# Altium schematic symbol library mini_lathe_motor_monitor.SCHLIB: 14 symbols
Pins are listed as number, name and electrical type; pins without a type are passive.

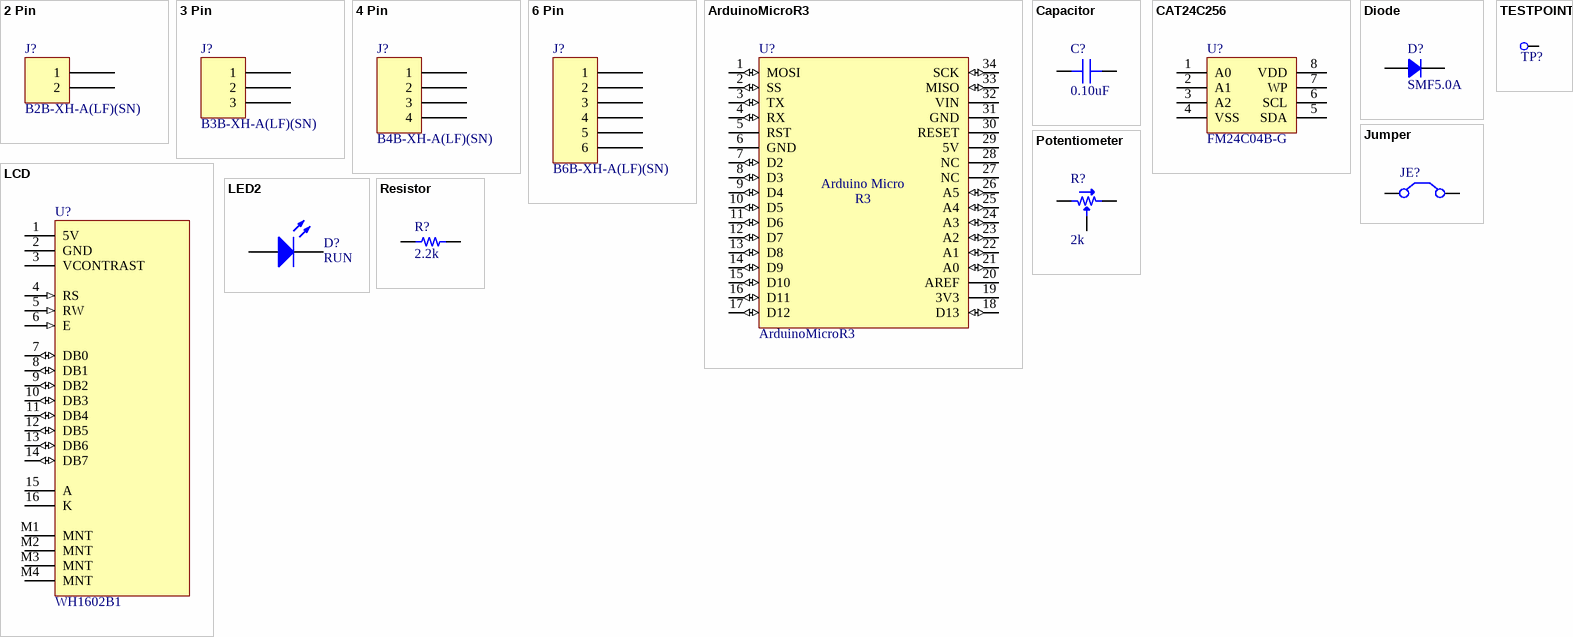
[diagram p0: symbols 2 Pin to TESTPOINT]

## 2 Pin
designator J?, comment B2B-XH-A(LF)(SN)
CONN HEADER XH TOP 2POS 2.5MM; Manufacturer: JST Sales America Inc.; Pitch: 0.098" (2.50mm); Number Of Positions: 2; PartId: 16449; Part Number: B2B-XH-A(LF)(SN); Supplier 1: Digi-Key; Supplier Part Number 1: 455-2247-ND; ComponentLink1Description: Datasheet; ComponentLink1URL: http://www.jst-mfg.com/product/pdf/eng/eXH.pdf; ComponentLink2Description: Digi-Key Listing; ComponentLink2URL: http://www.digikey.com/product-detail/en/jst-sales-america-inc/B2B-XH-A(LF)(SN)/455-2247-ND/1651045; Price: 0.1500; Type: Header, Shrouded; Contact Finish: Tin; Fastening Type: Detent Lock; Number Of Rows: 1; Colour: Natural; Series: XH
footprint JST XH B2B-XH-A
pins: 1, 2

## 3 Pin
designator J?, comment B3B-XH-A(LF)(SN)
CONN HEADER XH TOP 3POS 2.5MM; Manufacturer: JST Sales America Inc.; Pitch: 0.098" (2.50mm); Number Of Positions: 3; PartId: 16450; Part Number: B3B-XH-A(LF)(SN); Supplier 1: Digi-Key; Supplier Part Number 1: 455-2248-ND; ComponentLink1Description: Datasheet; ComponentLink1URL: http://www.jst-mfg.com/product/pdf/eng/eXH.pdf; ComponentLink2Description: Digi-Key Listing; ComponentLink2URL: http://www.digikey.com/product-detail/en/jst-sales-america-inc/B3B-XH-A(LF)(SN)/455-2248-ND/1651046; Price: 0.1900; Type: Header, Shrouded; Contact Finish: Tin; Fastening Type: Detent Lock; Number Of Rows: 1; Colour: Natural; Series: XH
footprint JST XH B3B-XH-A
pins: 1, 2, 3

## 4 Pin
designator J?, comment B4B-XH-A(LF)(SN)
CONN HEADER XH TOP 4POS 2.5MM; Manufacturer: JST Sales America Inc.; Pitch: 0.098" (2.50mm); Number Of Positions: 4; PartId: 16451; Part Number: B4B-XH-A(LF)(SN); Supplier 1: Digi-Key; Supplier Part Number 1: 455-2249-ND; ComponentLink1Description: Datasheet; ComponentLink1URL: http://www.jst-mfg.com/product/pdf/eng/eXH.pdf; ComponentLink2Description: Digi-Key Listing; ComponentLink2URL: http://www.digikey.com/product-detail/en/jst-sales-america-inc/B4B-XH-A(LF)(SN)/455-2249-ND/1651047; Price: 0.2100; Type: Header, Shrouded; Contact Finish: Tin; Fastening Type: Detent Lock; Number Of Rows: 1; Colour: Natural; Series: XH
footprint JST XH B4B-XH-A
pins: 1, 2, 3, 4

## 6 Pin
designator J?, comment B6B-XH-A(LF)(SN)
CONN HEADER XH TOP 6POS 2.5MM; Manufacturer: JST Sales America Inc.; Pitch: 0.098" (2.50mm); Number Of Positions: 6; PartId: 16453; Part Number: B6B-XH-A(LF)(SN); Supplier 1: Digi-Key; Supplier Part Number 1: 455-2271-ND; ComponentLink1Description: Datasheet; ComponentLink1URL: http://www.jst-mfg.com/product/pdf/eng/eXH.pdf; ComponentLink2Description: Digi-Key Listing; ComponentLink2URL: http://www.digikey.com/product-detail/en/jst-sales-america-inc/B6B-XH-A(LF)(SN)/455-2271-ND/1000381; Price: 0.2700; Type: Header, Shrouded; Contact Finish: Tin; Fastening Type: Detent Lock; Number Of Rows: 1; Colour: Natural; Series: XH
footprint JST XH B6B-XH-A
pins: 1, 2, 3, 4, 5, 6

## ArduinoMicroR3
designator U?
Arduino Micro R3; Manufacturer: Arduino; PartNumber: Micro R3
footprint ARDUINO_MICRO_R3 (Arduino Micro R3)
pins: 1 MOSI (io), 2 SS (io), 3 TX (io), 4 RX (io), 5 RST, 6 GND (power), 7 D2 (io), 8 D3 (io), 9 D4 (io), 10 D5 (io), 11 D6 (io), 12 D7 (io), 13 D8 (io), 14 D9 (io), 15 D10 (io), 16 D11 (io), 17 D12 (io), 18 D13 (io), 19 3V3 (power), 20 AREF, 21 A0 (io), 22 A1 (io), 23 A2 (io), 24 A3 (io), 25 A4 (io), 26 A5 (io), 27 NC, 28 NC, 29 5V (power), 30 RESET (power), 31 GND (power), 32 VIN (power), 33 MISO (io), 34 SCK (io)
text: Arduino Micro; R3

## Capacitor
designator C?, comment 0.10uF
CAP CER 0.1UF 16V X7R 0603; Part Number: GRM188R71C104KA01D; Manufacturer: Murata Electronics North America; TemperatureRange: -55C ~ 125C; Tolerance: 10%; Value: 0.10uF; PartId: 12948; Supplier 1: Digi-Key; Supplier Part Number 1: 490-1532-2-ND; ComponentLink1Description: Datasheet; ComponentLink1URL: http://www.murata.com/~/media/webrenewal/support/library/catalog/products/capacitor/mlcc/c02e.pdf; ComponentLink2Description: Digi-Key Listing; ComponentLink2URL: https://www.digikey.com/product-detail/en/murata-electronics-north-america/GRM188R71C104KA01D/490-1532-2-ND/587060; TemperatureCoefficient: X7R; Voltage: 16V; Price: 0.0035; Device Package: 0603 (1608 Metric)
footprint CAP 0603/1608
pins: 1, 2

## CAT24C256
designator U?, comment FM24C04B-G
FM24C04B FRAM; Manufacturer: Cypress; PartNumber: FM24C04B-G
footprint SO8_N (SOIC, 8-Leads, Body 4.9x3.9mm, Pitch 1.27mm, IPC Medium Density)
pins: 1 A0, 2 A1, 3 A2, 4 VSS, 5 SDA, 6 SCL, 7 WP, 8 VDD

## Diode
designator D?, comment SMF5.0A
TVS DIODE 5VWM 9.2VC SOD123; Manufacturer: Littelfuse Inc.; Type: Surface Mount; Power - Peak Pulse: 200W; Current - Peak Pulse: 21.7A; Voltage (Clamping): 9.2V; Voltage (Breakdown): 6.4V; Voltage (Reverse Standoff): 5V; PartId: 7758; Part Number: SMF5.0A; Supplier 1: Digi-Key; Supplier Part Number 1: F5748TR-ND; ComponentLink1Description: Datasheet; ComponentLink1URL: http://www.littelfuse.com/~/media/electronics/datasheets/tvs_diodes/littelfuse_tvs_diode_smf_datasheet.pdf.pdf; ComponentLink2Description: Digi-Key Listing; ComponentLink2URL: http://www.digikey.ca/product-detail/en/SMF5.0A/F5748TR-ND/3429605; Operating Temperature: -55C ~ 150C (TJ); Price: 0.1656; Device Package: SOD-123F
footprint SOD123F
pins: 1, 2

## Jumper
designator JE?  (value not drawn)  (no BOM)
Jumper Wire; Published: 24-Mar-1999; LatestRevisionDate: 17-Jul-2002; LatestRevisionNote: Re-released for DXP Platform.; PackageReference: RAD-0.2; Publisher: Altium Limited; PackageDescription: Radial Cap, Thru-Hole; 2 Leads; 0.2 in Pin Spacing
footprint RAD-0.2 (Radial Cap, Thru-Hole; 2 Leads; 0.2 in Pin Spacing)
footprint SOLDER_JUMPER1
pins: 1 C1, 2 C2

## LCD
designator U?, comment WH1602B1
2x16 LCD; Manufacturer: Winstar; PartNumber: WH1602B1
pins: 1 5V (power), 2 GND (power), 3 VCONTRAST (power), 4 RS (in), 5 RW (in), 6 E (in), 7 DB0 (io), 8 DB1 (io), 9 DB2 (io), 10 DB3 (io), 11 DB4 (io), 12 DB5 (io), 13 DB6 (io), 14 DB7 (io), 15 A, 16 K, M1 MNT, M2 MNT, M3 MNT, M4 MNT

## LED2
designator D?, comment RUN
Typical RED, GREEN, YELLOW, AMBER GaAs LED; PartNumber: LTST-C194KGKT; Manufacturer: Lite-On; Published: 8-Jun-2000; LatestRevisionDate: 17-Jul-2002; LatestRevisionNote: Re-released for DXP Platform.; PackageVersion: Feb-2002; PackageReference: 3.2X1.6X1.1; Publisher: Altium Limited; PackageDescription: SM LED; 2 Flat Leads
footprint 0603R-GENERIC (RESISTOR 0603)
simulation model LED2 (Diode)
pins: 1 A, 2 K

## Potentiometer
designator R?, comment 2k
TRIMMER 2K OHM 0.15W SMD; Part Number: EVM-3YSX50B23; Manufacturer: Panasonic Electronic Components; TemperatureCoefficient: 250ppm/C; Tolerance: 25%; Number Of Turns: Single; Adjustment Type: Top Adjustment; Value: 2k; PartId: 7179; Supplier 1: Digi-Key; Supplier Part Number 1: P3Y202TR-ND; ComponentLink1Description: Datasheet; ComponentLink1URL: http://media.digikey.com/pdf/Data%20Sheets/Panasonic%20Resistors%20Thermistors%20PDFs/EVM-3Y_S_R_Rev2010.pdf; ComponentLink2Description: Digi-Key Listing; ComponentLink2URL: http://www.digikey.ca/product-detail/en/EVM-3YSX50B23/P3Y202TR-ND/259777; PowerRating: 0.15W; Price: 0.2543; Type: Surface Mount
footprint POT Panasonic EVM
pins: 1, 2, 3

## Resistor
designator R?, comment 2.2k
RES SMD 2.2K OHM 5% 1/10W 0603; Part Number: ERJ-3GEYJ222V; Manufacturer: Panasonic Electronic Components; TemperatureRange: -55C ~ 155C; TemperatureCoefficient: 200ppm/C; PowerRating: 0.1W, 1/10W; Value: 2.2k; PartId: 11184; Supplier 1: Digi-Key; Supplier Part Number 1: P2.2KGTR-ND; ComponentLink1Description: Datasheet; ComponentLink1URL: http://industrial.panasonic.com/www-cgi/jvcr13pz.cgi?E+PZ+3+AOA0001+ERJ3GEYJ222V+7+WW; ComponentLink2Description: Digi-Key Listing; ComponentLink2URL: https://www.digikey.com/product-detail/en/panasonic-electronic-components/ERJ-3GEYJ222V/P2.2KGTR-ND/135862; Tolerance: 5%; Price: 0.0020; Device Package: 0603 (1608 Metric)
footprint RES 0603/1608
pins: 1, 2

## TESTPOINT
designator TP?  (value not drawn)  (no BOM)
footprint TESTPOINT_ROUND_30MIL (Footprint not found)
pins: 1